# Altium footprint library libreriaPcb.PcbLib: 683 footprints (part 33 of 44)
Each footprint in its own frame and in the unit in brackets; x right, y up, seen from the top. Pads: shape width x height; smd on the part's side, far side on the other; paste and mask are expansions set on the pad; w line width, h text height; cw(c..) or ccw(c..) is an arc to the next point about the centre after c.
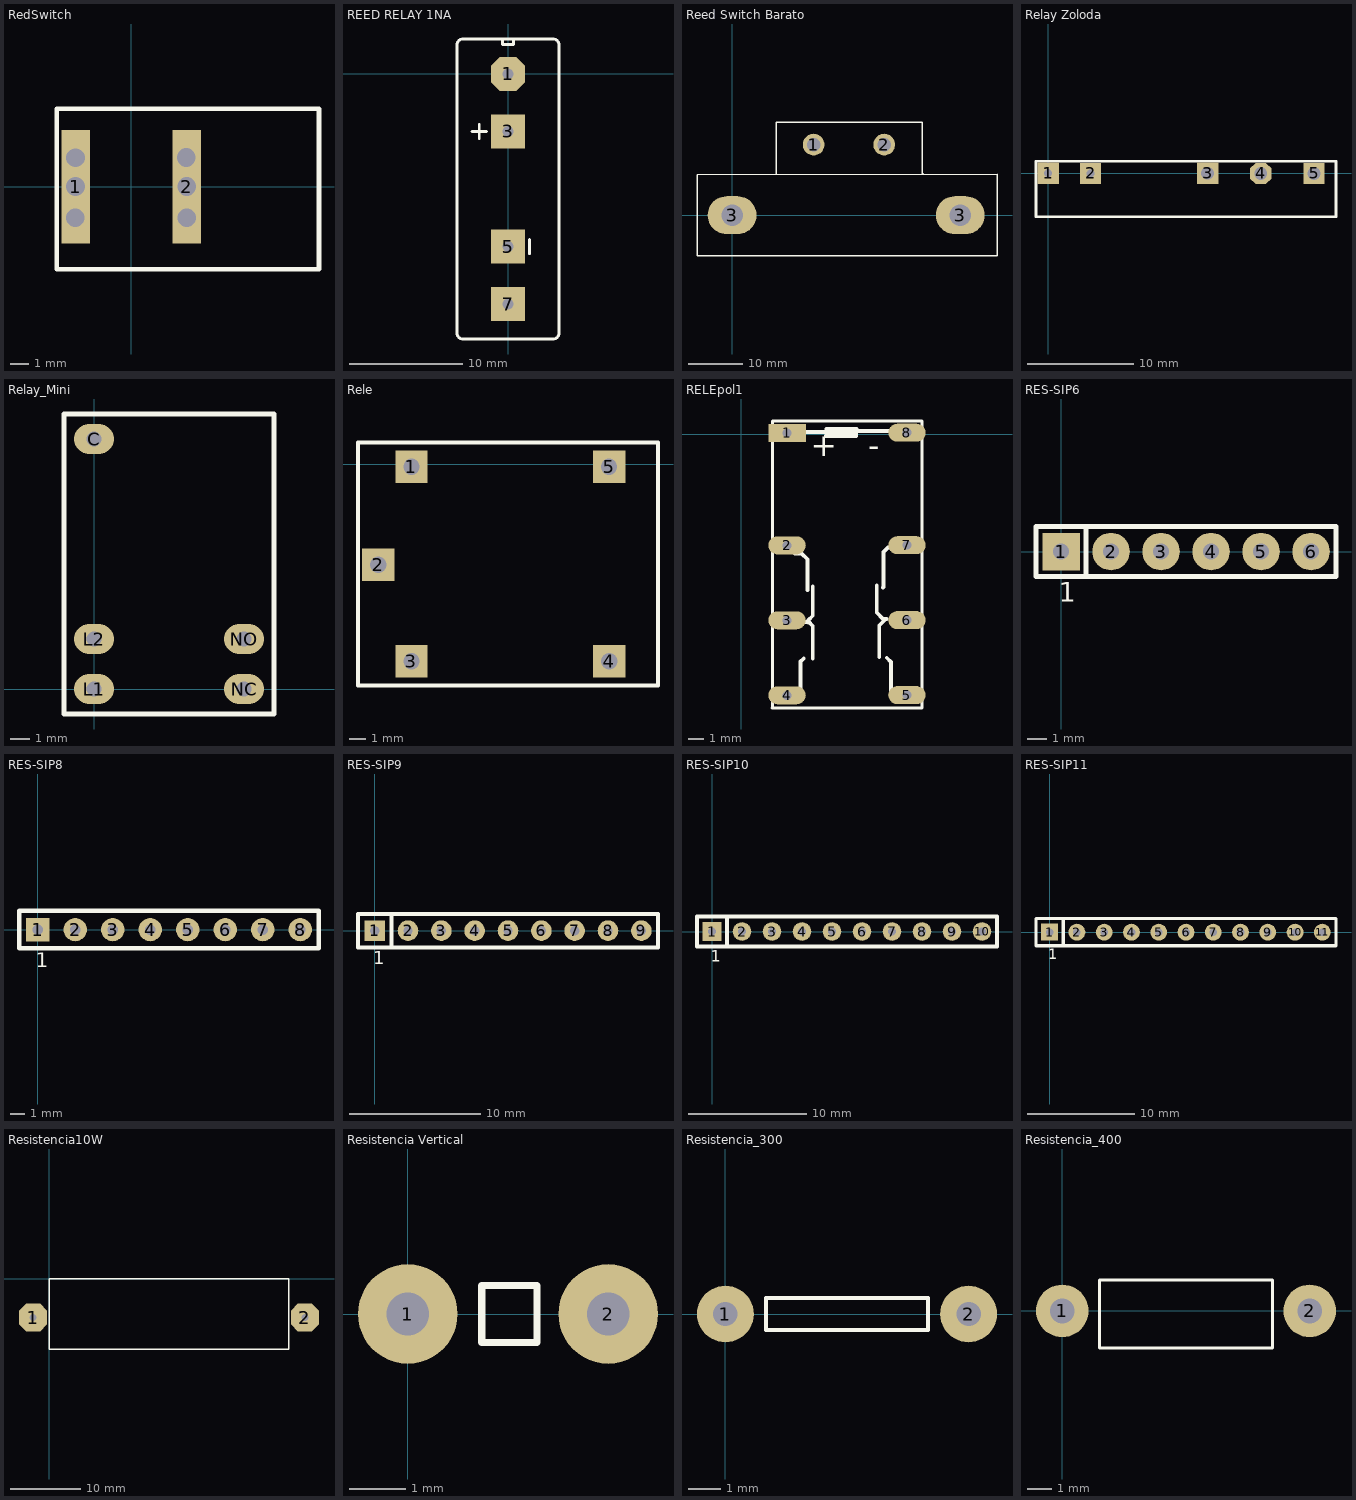
[diagram p32: the footprints below, top view; thin cyan lines are the x and y axes]

## RedSwitch [mm]
pads (2):
  rect 1.5x6 hole 1: 1(-2.937,0)
  rect 1.524x6 hole 1: 2(2.937,0)
via -2.963,-1.65 diameter 1.27 hole 1
via -2.937,1.525 diameter 1.27 hole 1
via 2.937,-1.65 diameter 1.27 hole 1
via 2.912,1.55 diameter 1.27 hole 1
Top Overlay:
  lines w0.254: -3.938,-4.375 -3.938,2.35 -3.938,4.121 9.937,4.121 9.937,-4.375 -3.938,-4.375
3D body: height 10, standoff 9, extent -4.29,-4.725 10.362,4.525
3D body: height 9, standoff 0, extent -4.065,-4.502 10.064,4.248
3D body: height 11, standoff 10, extent -2.763,-3.775 9.212,3.675
3D body: height 11.2, standoff 11.1, extent -1.112,-1 0.888,1
3D body: height 11.1, standoff 11, extent 4.538,-0.1 6.537,0.25

## REED RELAY 1NA [mm]
pads (4):
  oct 3x3 hole 1: 1(0,0)
  rect 3x3 hole 1: 3(0,-5.08) 5(0,-15.24) 7(0,-20.32)
Top Overlay:
  lines w0.254: -3.175,-5.08 -1.905,-5.08 ; -2.54,-5.715 -2.54,-4.445 ; -0.5,3.09 -0.5,2.59 0.5,2.59 0.5,3.09 ; 1.905,-15.875 1.905,-14.605 ; -4.5,-22.91 ccw(c-4,-22.91) -4,-23.41 4,-23.41 ccw(c4,-22.91) 4.5,-22.91 4.5,2.59 ccw(c4,2.59) 4,3.09 -3.5,3.09 -4,3.09 ccw(c-4,2.59) -4.5,2.59 -4.5,-22.91

## Reed Switch Barato [mm]
height 10.16
pads (4):
  round 4 hole 2.5: 1(15,13) 2(28,13)
  oval 9x7 hole 4: 3(0,0) 3(42,0)
Top Overlay:
  lines w0.254: 8.128,7.495 8.128,17.145 34.997,17.145 34.997,7.681 35.181,7.498 ; -6.477,-7.493 -6.477,7.493 48.768,7.499 48.768,-7.499 ; -6.477,-7.493 48.768,-7.499 ; -6.477,-7.493 48.768,-7.499

## Relay Zoloda [mm] "RZE012CO-2501I05A"
pads (5):
  rect 2x2 hole 0.762: 1(0,0) 2(3.984,-0.016)
  rect 2x2 hole 1.2: 3(14.986,0) 5(24.984,-0.016)
  oct 2x2 hole 1.2: 4(19.984,-0.016)
Top Overlay:
  lines w0.254: -1.143,-4.08 -1.143,1.127 27.051,1.127 27.051,-4.08 -1.143,-4.08

## Relay_Mini [mil]
pads (5):
  oval 80x60 / inner round 0 / far side oval 80x60 hole 30: C(0,500) L1(0,0) L2(0,100) NC(300,0) NO(300,100)
Top Overlay:
  lines w10: -60,-50 -60,550 360,550 360,-50 -60,-50

## Rele [mm]
pads (5):
  rect 2x2 hole 1: 1(5.1,-0.15) 2(3.05,-6.2) 3(5.1,-12.15) 4(17.3,-12.15) 5(17.29,-0.15)
Top Overlay:
  lines w0.254: 1.8,-13.65 1.8,1.35 6.975,1.35 20.31,1.35 20.31,-13.65 1.8,-13.65

## RELEpol1 [mm]
pads (8):
  rect 2.5x1.2 hole 0.6: 1(3.05,0.1)
  oval 2.5x1.2 hole 0.6: 2(3.05,-7.4) 3(3.05,-12.4) 4(3.05,-17.4) 5(11.05,-17.39) 6(11.05,-12.39) 7(11.05,-7.39) 8(11.05,0.11)
Top Overlay:
  lines w0.2: 2.055,-18.24 12.04,-18.24 12.04,0.9 2.085,0.9 2.085,-18.24
  lines w0.254: 3.05,0.1 3.1,0.15 5.67,0.15 ; 3.59,-7.94 4.02,-7.94 4.41,-8.33 4.41,-10.39 ; 3.95,-17.03 3.95,-15.15 4.16,-14.94 ; 4.16,-12.52 4.52,-12.52 4.77,-12.77 4.77,-14.94 ; 4.48,-12.56 4.48,-12.39 4.77,-12.1 4.77,-10.14 ; 9.03,-10.07 9.03,-11.89 9.45,-12.31 9.7,-12.31 9.63,-12.31 9.2,-12.74 9.2,-14.87 ; 9.45,-10.22 9.49,-10.18 9.49,-7.84 9.78,-7.55 10.2,-7.55 ; 9.7,-14.9 9.98,-15.18 9.98,-17.1 ; 9.97,0.24 9.95,0.22 7.57,0.22 7.5,0.15 5.67,0.15 ; 5.67,0.15 5.67,-0.08 5.65,-0.1 7.66,-0.1 7.66,0.04 7.66,0.33 7.69,0.36 5.69,0.36 5.69,0.13 5.67,0.15
  text "-" at 8.46,-1.5 h1.52
  text "+" at 4.64,-1.45 h1.52

## RES-SIP6 [mil] "1Com-5Res-SIP"
pads (6):
  rect 75x75 hole 32: 1(0,0)
  round 75 hole 32: 2(100,0) 3(200,0) 4(300,0) 5(400,0) 6(500,0)
Top Overlay:
  lines w10: 50,-50 50,50 ; -50,-50 550,-50 550,50 -50,50 -50,-50
  text "1" at -5,-100 h39.37

## RES-SIP8 [mil] "1Com-7Res-SIP"
pads (8):
  rect 62x62 hole 28: 1(0,0)
  round 62 hole 28: 2(100,0) 3(200,0) 4(300,0) 5(400,0) 6(500,0) 7(600,0) 8(700,0)
Top Overlay:
  lines w12: -50,-50 -50,50 750,50 750,-50 -50,-50
  text "1" at -5,-100 h39.37

## RES-SIP9 [mil] "1Com-8Res-SIP"
pads (9):
  rect 62x62 hole 28: 1(0,0)
  round 62 hole 28: 2(100,0) 3(200,0) 4(300,0) 5(400,0) 6(500,0) 7(600,0) 8(700,0) 9(800,0)
Top Overlay:
  lines w12: 50,-50 50,50 ; -50,-50 -50,50 850,50 850,-50 -50,-50
  text "1" at -5,-100 h39.37

## RES-SIP10 [mil] "1Com-9Res-SIP"
pads (10):
  rect 62x62 hole 28: 1(0,0)
  round 62 hole 28: 2(100,0) 3(200,0) 4(300,0) 5(400,0) 6(500,0) 7(600,0) 8(700,0) 9(800,0) 10(900,0)
Top Overlay:
  lines w12: 50,-50 50,50 ; -50,-50 950,-50 950,50 -50,50 -50,-50
  text "1" at -5,-100 h39.37

## RES-SIP11 [mil] "1Com-10Res-SIP"
pads (11):
  rect 62x62 hole 28: 1(0,0)
  round 62 hole 28: 2(100,0) 3(200,0) 4(300,0) 5(400,0) 6(500,0) 7(600,0) 8(700,0) 9(800,0) 10(900,0) 11(1000,0)
Top Overlay:
  lines w12: 50,-50 50,50 ; -50,-50 1050,-50 1050,50 -50,50 -50,-50
  text "1" at -5,-100 h39.37

## Resistencia10W [mm]
pads (2):
  oct 4x4 hole 1: 1(-2.3,-5.5) 2(36.3,-5.5)
Top Overlay:
  lines w0.254: 0,-10 0,0 34,0 34,-10 0,-10

## Resistencia Vertical [mil]
pads (2):
  round 70 / inner round 0 / far side round 70 hole 30 paste+0: 1(0,0) 2(141,0)
Top Overlay:
  lines w5: 52,-20 91,-20 91,20 52,20 52,-20

## Resistencia_300 [mil]
pads (2):
  round 70 / inner round 0 / far side round 70 hole 30 paste+0: 1(0,0) 2(300,0)
Top Overlay:
  lines w5: 50,-20 50,20 250,20 250,-20 50,-20

## Resistencia_400 [mil]
pads (2):
  round 85 / inner round 0 / far side round 85 hole 40 paste+0: 1(0,0) 2(400,0)
Top Overlay:
  lines w5: 60,-60 340,-60 340,50 60,50 60,-60